# Altium footprint library SOT-23-6.PcbLib: 1 footprints
Each footprint in its own frame and in the unit in brackets; x right, y up, seen from the top. Pads: shape width x height; smd on the part's side, far side on the other; paste and mask are expansions set on the pad; w line width, h text height; cw(c..) or ccw(c..) is an arc to the next point about the centre after c.
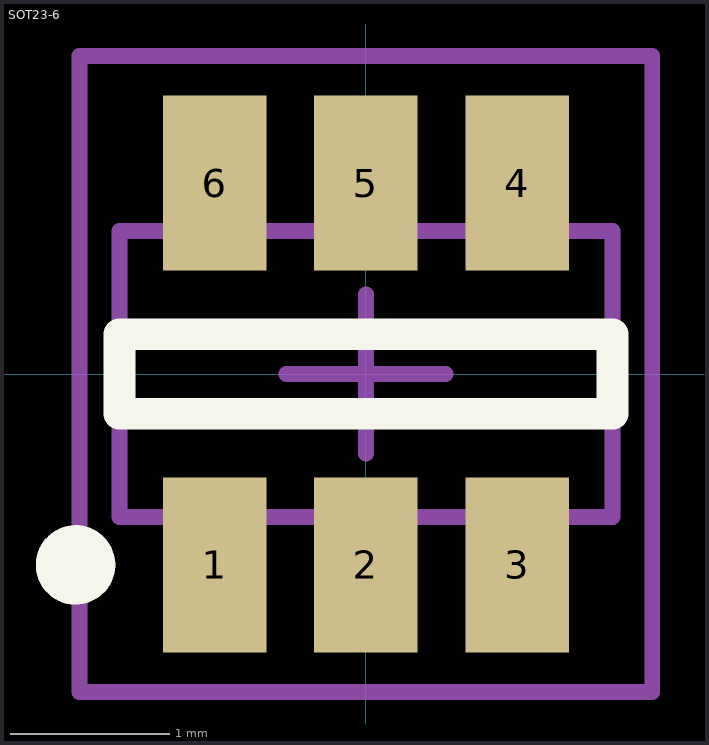
[diagram p0: the footprint, top view; thin cyan lines are the x and y axes]

## SOT23-6 [mm]
pads (6):
  rect 0.65x1.1 smd: 1(-0.95,-1.2) 2(0,-1.2) 3(0.95,-1.2) 4(0.95,1.2) 5(0,1.2) 6(-0.95,1.2)
Top Overlay:
  circle w0.25: c-1.825,-1.2 r0.125
  lines w0.2: -1.55,-0.25 1.55,-0.25 1.55,0.25 -1.55,0.25 -1.55,-0.25
Mechanical 13:
  lines w0.1: -1.55,-0.9 -1.55,0.9 1.55,0.9 1.55,-0.9 -1.55,-0.9
Mechanical 15:
  lines w0.1: -0.5,0 0.5,0 ; 0,-0.5 0,0.5 ; -1.8,-2 -1.8,2 1.8,2 1.8,-2 -1.8,-2
3D body: height 1.45, standoff 0, extent -1.55,-1.535 1.55,1.535